# Altium footprint library 摇杆.PcbLib: 1 footprints
Each footprint in its own frame and in the unit in brackets; x right, y up, seen from the top. Pads: shape width x height; smd on the part's side, far side on the other; paste and mask are expansions set on the pad; w line width, h text height; cw(c..) or ccw(c..) is an arc to the next point about the centre after c.
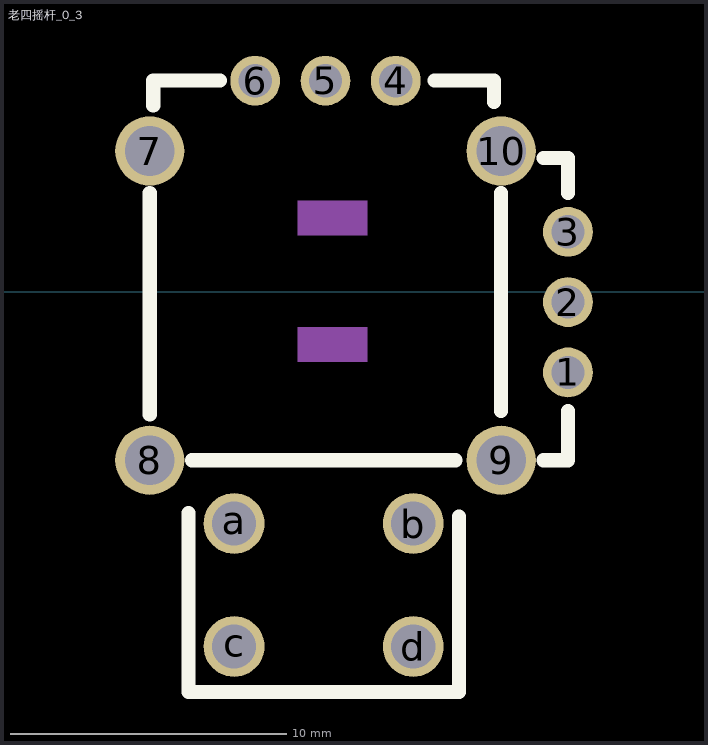
[diagram p0: the footprint, top view; thin cyan lines are the x and y axes]

## 老四摇杆_0_3 [mm]
pads (14):
  round 1.8 hole 1.2: 1(-14.732,-2.921) 2(-14.732,-0.381) 3(-14.732,2.159) 4(-20.955,7.62) 5(-23.495,7.62) 6(-26.035,7.62)
  round 2.5 hole 1.8: 7(-29.845,5.08) 8(-29.845,-6.096) 9(-17.145,-6.096) 10(-17.145,5.08)
  round 2.2 hole 1.6: a(-26.797,-8.382) b(-20.32,-8.382) c(-26.797,-12.827) d(-20.32,-12.827)
Top Overlay:
  circle w0.013: c-23.495,7.62 r0.635
  circle w0.013: c-20.955,7.62 r0.635
  circle w0.013: c-17.145,5.08 r0.889
  circle w0.013: c-14.732,2.159 r0.635
  circle w0.013: c-14.732,-0.381 r0.635
  circle w0.013: c-14.732,-2.921 r0.635
  circle w0.013: c-26.035,7.62 r0.635
  circle w0.013: c-29.845,5.08 r0.889
  circle w0.013: c-26.797,-8.382 r0.762
  circle w0.013: c-20.32,-8.382 r0.762
  circle w0.013: c-26.797,-12.827 r0.762
  circle w0.013: c-20.32,-12.827 r0.762
  circle w0.013: c-17.145,-6.096 r0.889
  circle w0.013: c-29.845,-6.096 r0.898
  lines w0.508: -29.845,-4.445 -29.845,3.556 ; -29.718,6.731 -29.718,7.62 -27.305,7.62 ; -28.448,-8.001 -28.448,-14.097 -28.448,-14.478 -18.669,-14.478 -18.669,-8.128 ; -28.321,-6.096 -18.796,-6.096 ; -19.558,7.62 -17.399,7.62 -17.399,6.858 ; -17.145,-4.318 -17.145,3.556 ; -15.621,-6.096 -14.732,-6.096 -14.732,-4.318 ; -15.621,4.826 -14.732,4.826 -14.732,3.556
Mechanical 6:
  region: -21.991,-1.29 -21.991,-2.54 -24.491,-2.54 -24.491,-1.29
  region: -24.491,2.032 -24.491,3.282 -21.991,3.282 -21.991,2.032